# Altium footprint library CONNECTOR.PcbLib: 10 footprints
Each footprint in its own frame and in the unit in brackets; x right, y up, seen from the top. Pads: shape width x height; smd on the part's side, far side on the other; paste and mask are expansions set on the pad; w line width, h text height; cw(c..) or ccw(c..) is an arc to the next point about the centre after c.
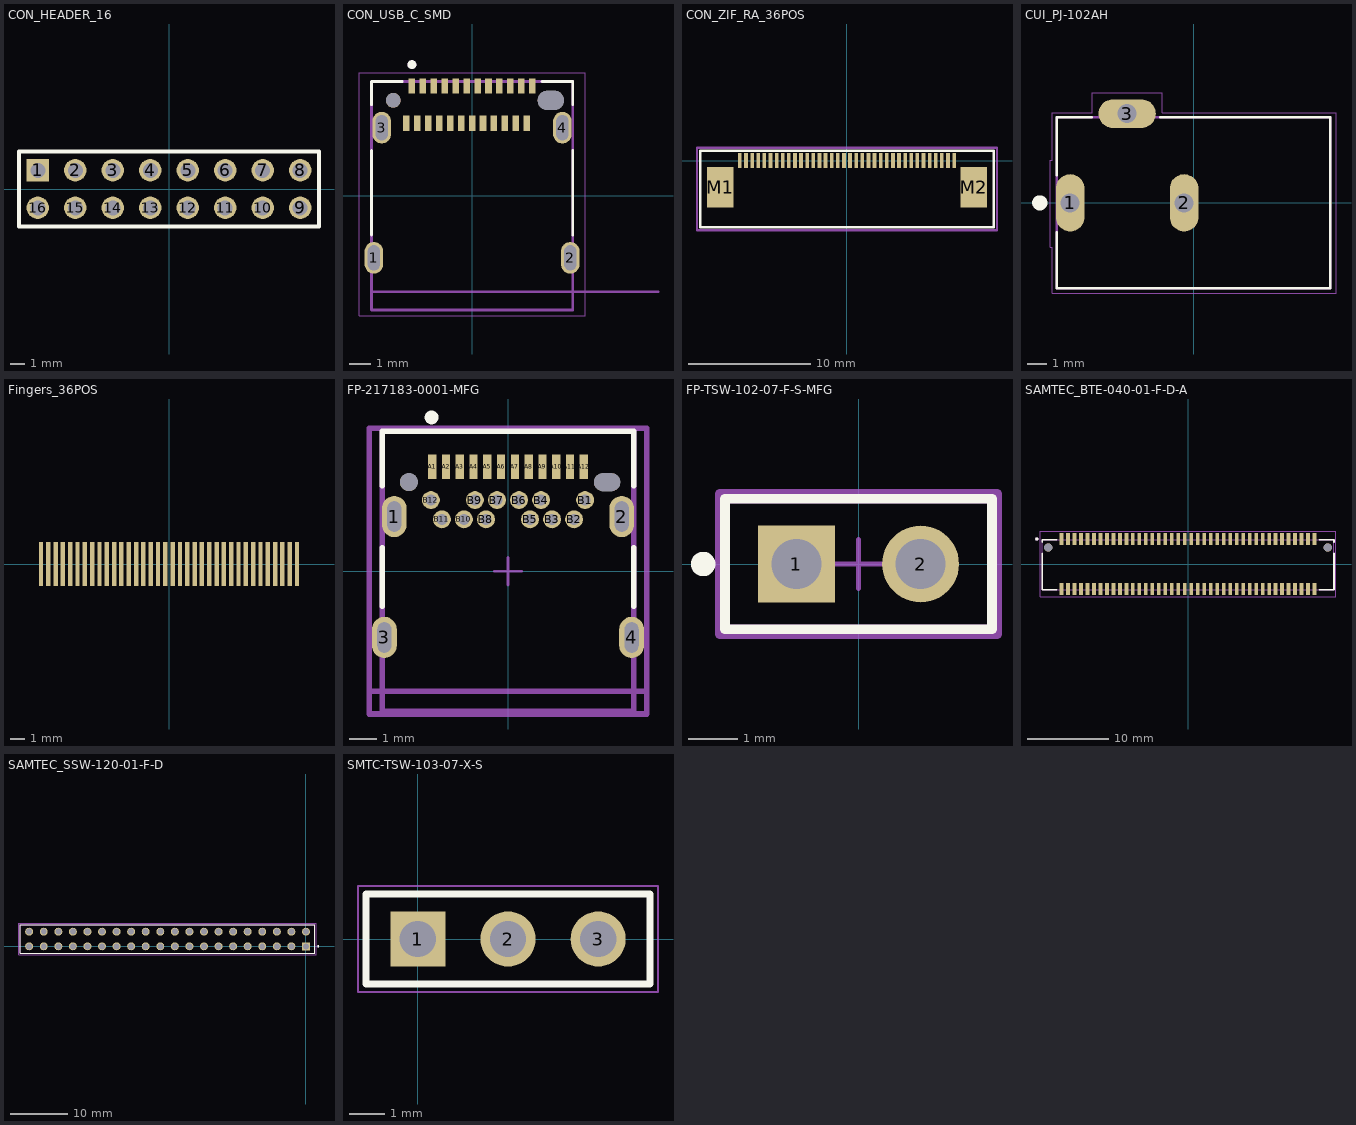
[diagram p0: the footprints below, top view; thin cyan lines are the x and y axes]

## CON_HEADER_16 [mil] "0.1\" pitch"
pads (16):
  rect 60x60 hole 40: 1(-350,50)
  round 60 hole 40: 2(-250,50) 3(-150,50) 4(-50,50) 5(50,50) 6(150,50) 7(250,50) 8(350,50) 9(350,-50) 10(250,-50) 11(150,-50) 12(50,-50) 13(-50,-50) 14(-150,-50) 15(-250,-50) 16(-350,-50)
Top Overlay:
  lines w10: -400,-100 400,-100 400,100 -400,100 -400,-100

## CON_USB_C_SMD [mm] "12401610E4"
height 3.43
pads (30):
  oval 0.85x1.45 hole 0.55 slot 1.15 at 90 deg mask+0.05: 1(-4.49,-2.835) 2(4.49,-2.835) 3(-4.13,3.115) 4(4.13,3.115)
  rect 0.3x0.7 smd paste+0 mask+0.05: A1(-2.75,5.025) A2(-2.25,5.025) A3(-1.75,5.025) A4(-1.25,5.025) A5(-0.75,5.025) A6(-0.25,5.025) A7(0.25,5.025) A8(0.75,5.025) A9(1.25,5.025) A10(1.75,5.025) A11(2.25,5.025) A12(2.75,5.025) B1(2.5,3.325) B2(2,3.325) B3(1.5,3.325) B4(1,3.325) B5(0.5,3.325) B6(0,3.325) B7(-0.5,3.325) B8(-1,3.325) B9(-1.5,3.325) B10(-2,3.325) B11(-2.5,3.325) B12(-3,3.325)
  round 0.675 hole 0.675 unplated mask+0: ""(-3.6,4.365)
  oval 1.2x0.875 hole 0.875 slot 1.2 at 0 deg unplated mask+0: ""(3.6,4.366)
Top Overlay:
  circle w0.2: c-2.75,6 r0.1
  lines w0.127: -4.6,-1.79 -4.6,2.07 ; -4.6,4.16 -4.6,5.225 -3.195,5.225 ; 3.195,5.225 4.6,5.225 4.6,4.16 ; 4.6,-1.79 4.6,2.07
Top Assembly Drawing:
  circle w0.2: c-2.75,6 r0.1
  lines w0.127: 8.5,-4.385 -4.6,-4.385 ; -4.6,-4.385 -4.6,-5.225 4.6,-5.225 4.6,5.225 -4.6,5.225 -4.6,-4.385
  text "PCB EDGE" at 5.25,-4 h1.02
Top Courtyard (Mech15):
  lines w0.05: -5.165,-5.475 -5.165,5.625 5.165,5.625 5.165,-5.475 -5.165,-5.475
3D body "step_temp.STEP": height 3.44, standoff -0.76, extent -4.628,-5.25 4.572,5.25

## CON_ZIF_RA_36POS [mm] "3-2492104-6 / 36 Position FPC Connector Contacts, Bottom 0.020\" (0.50mm) Surface Mount, Right Angle"
height 2
pads (38):
  rect 0.3x1.2 smd mask+0.025: 1(-8.75,0) 2(-8.25,0) 3(-7.75,0) 4(-7.25,0) 5(-6.75,0) 6(-6.25,0) 7(-5.75,0) 8(-5.25,0) 9(-4.75,0) 10(-4.25,0) 11(-3.75,0) 12(-3.25,0) 13(-2.75,0) 14(-2.25,0) 15(-1.75,0) 16(-1.25,0) 17(-0.75,0) 18(-0.25,0) 19(0.25,0) 20(0.75,0) 21(1.25,0) 22(1.75,0) 23(2.25,0) 24(2.75,0) 25(3.25,0) 26(3.75,0) 27(4.25,0) 28(4.75,0) 29(5.25,0) 30(5.75,0) 31(6.25,0) 32(6.75,0) 33(7.25,0) 34(7.75,0) 35(8.25,0) 36(8.75,0)
  rect 2.2x3.3 smd mask+0.025: M1(-10.35,-2.17) M2(10.35,-2.17)
Top Overlay:
  lines w0.2: -12,-5.45 -12,0.8 12,0.8 12,-5.45 -12,-5.45
Top Courtyard (Mech15):
  lines w0.2: -12.25,-5.7 -12.25,1.05 12.25,1.05 12.25,-5.7 -12.25,-5.7
3D body "c-3-2492104-6-1-3d.stp": height 2, standoff -0.02, extent -11.8,-5.25 11.8,0.5

## CUI_PJ-102AH [mm]
pads (3):
  oval 1.508x3.016 hole 1 square: 1(-6.5,0) 2(-0.5,0)
  oval 3.016x1.508 hole 1 square: 3(-3.5,4.7)
Top Overlay:
  circle w0.4: c-8.1,0 r0.2
  lines w0.127: -7.2,-1.55 -7.2,-4.5 7.2,-4.5 7.2,4.5 -1.75,4.5 ; -7.2,1.45 -7.2,4.5 -5.35,4.5
Top 3D Model:
  lines w0.127: -7.2,-4.5 7.2,-4.5 7.2,4.5 -7.2,4.5 -7.2,-4.5
Top Courtyard (Mech15):
  lines w0.05: -7.55,-2.35 -7.55,2.25 -7.45,2.25 -7.45,4.75 -5.35,4.75 -5.35,5.8 -1.65,5.8 -1.65,4.75 7.5,4.75 7.5,-4.75 -7.45,-4.75 -7.45,-2.35 -7.55,-2.35
3D body "step_temp.STEP": height 11, standoff -3.5, extent -7.2,-4.699 7.2,4.701

## Fingers_36POS [mm]
pads (36):
  rect 0.3x3 smd mask+0: 1(-8.75,0) 2(-8.25,0) 3(-7.75,0) 4(-7.25,0) 5(-6.75,0) 6(-6.25,0) 7(-5.75,0) 8(-5.25,0) 9(-4.75,0) 10(-4.25,0) 11(-3.75,0) 12(-3.25,0) 13(-2.75,0) 14(-2.25,0) 15(-1.75,0) 16(-1.25,0) 17(-0.75,0) 18(-0.25,0) 19(0.25,0) 20(0.75,0) 21(1.25,0) 22(1.75,0) 23(2.25,0) 24(2.75,0) 25(3.25,0) 26(3.75,0) 27(4.25,0) 28(4.75,0) 29(5.25,0) 30(5.75,0) 31(6.25,0) 32(6.75,0) 33(7.25,0) 34(7.75,0) 35(8.25,0) 36(8.75,0)

## FP-217183-0001-MFG [mm]
pads (30):
  rrect100% 0.9x1.5 hole 1.1 slot 0.5 at 0 deg paste-2539.97 mask+0: 1(-4.13,1.985) 2(4.13,1.985) 3(-4.49,-2.405) 4(4.49,-2.405)
  rect 0.3x0.9 smd paste+0 mask+0: A1(-2.75,3.795) A2(-2.25,3.795) A3(-1.75,3.795) A4(-1.25,3.795) A5(-0.75,3.795) A6(-0.25,3.795) A7(0.25,3.795) A8(0.75,3.795) A9(1.25,3.795) A10(1.75,3.795) A11(2.25,3.795) A12(2.75,3.795)
  round 0.65 hole 0.4 paste-2539.97 mask+0: B1(2.8,2.585) B2(2.4,1.885) B3(1.6,1.885) B4(1.2,2.585) B5(0.8,1.885) B6(0.4,2.585) B7(-0.4,2.585) B8(-0.8,1.885) B9(-1.2,2.585) B10(-1.6,1.885) B11(-2.4,1.885) B12(-2.8,2.585)
  round 0.65 hole 0.65 unplated paste-2539.97 mask+0: ""(-3.6,3.235)
  rrect100% 0.95x0.65 hole 0.65 slot 0.95 at 0 deg unplated paste-2539.97 mask+0: ""(3.6,3.235)
Top Overlay:
  circle w0.25: c-2.775,5.585 r0.125
  lines w0.2: -4.575,-1.28 -4.575,0.86 ; -4.575,3.11 -4.575,5.085 4.575,5.085 4.575,3.11 ; 4.575,-1.28 4.575,0.86
Top 3D Body:
  lines w0.2: -5.04,-4.355 5.04,-4.355 ; -4.575,-5.085 4.575,-5.085 4.575,5.085 -4.575,5.085 -4.575,-5.085
Top Assembly:
  lines w0.2: -5.04,-5.185 5.04,-5.185 5.04,5.185 -5.04,5.185 -5.04,-5.185
  text ".Designator" at 0,0.187 h1
Top Courtyard:
  lines w0.2: -5.04,-5.185 5.04,-5.185 5.04,5.185 -5.04,5.185 -5.04,-5.185
Top Component Center:
  lines w0.1: -0.5,0 0.5,0 ; 0,-0.5 0,0.5
3D body "Conn_Molex_217183-0001_eec.STEP": height 0.25, standoff 0, extent -5.04,-5.185 5.04,5.185

## FP-TSW-102-07-F-S-MFG [mm]
pads (2):
  rect 1.57x1.57 hole 1.02 paste-2539.97 mask+0: 1(-1.27,0)
  round 1.57 hole 1.02 paste-2539.97 mask+0: 2(1.27,0)
Top Overlay:
  circle w0.25: c-3.175,0 r0.125
  lines w0.2: -2.73,-1.335 -2.73,1.335 2.73,1.335 2.73,-1.335 -2.73,-1.335
Top 3D Body:
  lines w0.2: -2.73,-1.335 -2.73,1.335 2.73,1.335 2.73,-1.335 -2.73,-1.335
Top Assembly:
  lines w0.2: -2.83,-1.435 -2.83,1.435 2.83,1.435 2.83,-1.435 -2.83,-1.435
  text ".Designator" at 0,0.187 h1
Top Courtyard:
  lines w0.2: -2.83,-1.435 -2.83,1.435 2.83,1.435 2.83,-1.435 -2.83,-1.435
Top Component Center:
  lines w0.1: -0.5,0 0.5,0 ; 0,-0.5 0,0.5
3D body "Conn_Samtec_TSW-102-07-F-S_eec.STEP": height 0.25, standoff 0, extent -2.83,-1.435 2.83,1.435

## SAMTEC_BTE-040-01-F-D-A [mm]
pads (82):
  rect 0.457x1.44 smd: 01(-15.6,3.086) 02(-15.6,-3.086) 03(-14.8,3.086) 04(-14.8,-3.086) 05(-14,3.086) 06(-14,-3.086) 07(-13.2,3.086) 08(-13.2,-3.086) 09(-12.4,3.086) 10(-12.4,-3.086) 11(-11.6,3.086) 12(-11.6,-3.086) 13(-10.8,3.086) 14(-10.8,-3.086) 15(-10,3.086) 16(-10,-3.086) 17(-9.2,3.086) 18(-9.2,-3.086) 19(-8.4,3.086) 20(-8.4,-3.086) 21(-7.6,3.086) 22(-7.6,-3.086) 23(-6.8,3.086) 24(-6.8,-3.086) 25(-6,3.086) 26(-6,-3.086) 27(-5.2,3.086) 28(-5.2,-3.086) 29(-4.4,3.086) 30(-4.4,-3.086) 31(-3.6,3.086) 32(-3.6,-3.086) 33(-2.8,3.086) 34(-2.8,-3.086) 35(-2,3.086) 36(-2,-3.086) 37(-1.2,3.086) 38(-1.2,-3.086) 39(-0.4,3.086) 40(-0.4,-3.086) 41(0.4,3.086) 42(0.4,-3.086) 43(1.2,3.086) 44(1.2,-3.086) 45(2,3.086) 46(2,-3.086) 47(2.8,3.086) 48(2.8,-3.086) 49(3.6,3.086) 50(3.6,-3.086) 51(4.4,3.086) 52(4.4,-3.086) 53(5.2,3.086) 54(5.2,-3.086) 55(6,3.086) 56(6,-3.086) 57(6.8,3.086) 58(6.8,-3.086) 59(7.6,3.086) 60(7.6,-3.086) 61(8.4,3.086) 62(8.4,-3.086) 63(9.2,3.086) 64(9.2,-3.086) 65(10,3.086) 66(10,-3.086) 67(10.8,3.086) 68(10.8,-3.086) 69(11.6,3.086) 70(11.6,-3.086) 71(12.4,3.086) 72(12.4,-3.086) 73(13.2,3.086) 74(13.2,-3.086) 75(14,3.086) 76(14,-3.086) 77(14.8,3.086) 78(14.8,-3.086) 79(15.6,3.086) 80(15.6,-3.086)
  round 1.016 hole 1.016 unplated: ""(-17.238,2.032) ""(17.238,2.032)
Top Overlay:
  circle w0.2: c-18.65,3.086 r0.1
  lines w0.2: -18,1.349 -18,-3.187 -16.178,-3.187 ; -18,2.715 -18,2.984 -16.178,2.984 ; 16.178,-3.187 18,-3.187 18,1.349 ; 16.178,2.984 18,2.984 18,2.715
Top 3D Model:
  circle w0.2: c-18.65,3.086 r0.1
  lines w0.1: -18,-3.187 18,-3.187 ; -18,-3.187 18,-3.187 ; -18,-3.187 -18,2.984 18,2.984 18,-3.187
Top Courtyard (Mech15):
  lines w0.05: -18.25,-4.056 18.25,-4.056 18.25,4.056 -18.25,4.056 -18.25,-4.056
3D body "BTE-040-01-F-D-A.stp": height 4.27, standoff -0.75, extent -18.002,-3.556 18.002,3.556

## SAMTEC_SSW-120-01-F-D [mm]
pads (40):
  rect 1.39x1.39 hole 1.04: 01(0,0)
  round 1.39 hole 1.04: 02(0,2.54) 03(-2.54,0) 04(-2.54,2.54) 05(-5.08,0) 06(-5.08,2.54) 07(-7.62,0) 08(-7.62,2.54) 09(-10.16,0) 10(-10.16,2.54) 11(-12.7,0) 12(-12.7,2.54) 13(-15.24,0) 14(-15.24,2.54) 15(-17.78,0) 16(-17.78,2.54) 17(-20.32,0) 18(-20.32,2.54) 19(-22.86,0) 20(-22.86,2.54) 21(-25.4,0) 22(-25.4,2.54) 23(-27.94,0) 24(-27.94,2.54) 25(-30.48,0) 26(-30.48,2.54) 27(-33.02,0) 28(-33.02,2.54) 29(-35.56,0) 30(-35.56,2.54) 31(-38.1,0) 32(-38.1,2.54) 33(-40.64,0) 34(-40.64,2.54) 35(-43.18,0) 36(-43.18,2.54) 37(-45.72,0) 38(-45.72,2.54) 39(-48.26,0) 40(-48.26,2.54)
Top Overlay:
  circle w0.2: c2.175,0 r0.1
  lines w0.2: -49.785,-1.206 1.525,-1.206 1.525,3.746 -49.785,3.746 -49.785,-1.206
Top 3D Model:
  circle w0.2: c2.175,0 r0.1
  lines w0.1: -49.785,-1.206 -49.785,3.746 ; -49.785,-1.206 1.525,-1.206 ; -49.785,-1.206 -49.785,3.746 ; -49.785,3.746 1.525,3.746 ; -49.785,3.746 1.525,3.746 ; 1.525,-1.206 1.525,3.746 ; 1.525,-1.206 1.525,3.746
Top Courtyard (Mech15):
  lines w0.05: -50.035,-1.456 1.775,-1.456 1.775,3.996 -50.035,3.996 -50.035,-1.456
3D body "SSW-120-01-F-D.stp": height 8.51, standoff -2.64, extent -49.784,-1.206 1.524,3.746

## SMTC-TSW-103-07-X-S [mm] ".025 SQ Post Terminal Strip Assembly, 1x3 Pins, Vertical, 2.54mm Pitch, Male"
height 8.58
pads (3):
  rect 1.55x1.55 hole 1.02: 1(0,0)
  round 1.55 hole 1.02: 2(2.54,0) 3(5.08,0)
Top Overlay:
  lines w0.2: -1.46,-1.27 6.54,-1.27 6.54,1.27 -1.46,1.27 -1.46,-1.27
Top 3D Model:
  lines w0.1: -1.46,-1.27 6.54,-1.27 6.54,1.27 -1.46,1.27 -1.46,-1.27
Top Courtyard (Mech15):
  lines w0.05: -1.685,-1.495 6.765,-1.495 6.765,1.495 -1.685,1.495 -1.685,-1.495
3D body "TSW-103-07-X-S.step": height 8.38, standoff -2.54, extent -1.27,-1.27 6.35,1.27